# Altium footprint library reslib.PcbLib: 2 footprints
Each footprint in its own frame and in the unit in brackets; x right, y up, seen from the top. Pads: shape width x height; smd on the part's side, far side on the other; paste and mask are expansions set on the pad; w line width, h text height; cw(c..) or ccw(c..) is an arc to the next point about the centre after c.
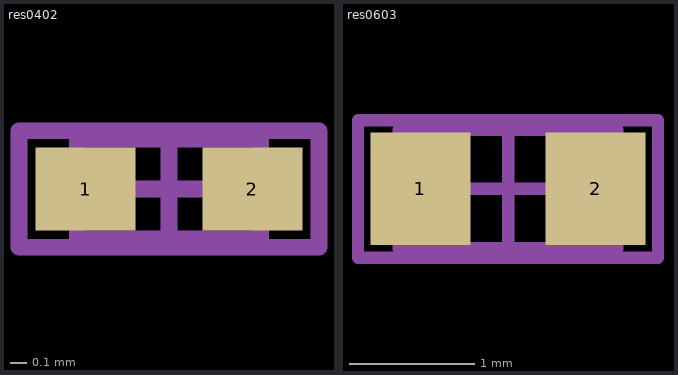
[diagram p0: the footprints below, top view; thin cyan lines are the x and y axes]

## res0402 [mm]
pads (2):
  rect 0.6x0.5 smd: 1(-1264.785,-1266.19) 2(-1263.785,-1266.19)
Mechanical 13:
  lines w0.1: -1264.835,-1266.49 -1263.735,-1266.49 -1263.735,-1265.89 -1264.835,-1265.89 -1264.835,-1266.49
Mechanical 15:
  lines w0.1: -1264.585,-1266.19 -1263.985,-1266.19 ; -1264.285,-1266.49 -1264.285,-1265.89 ; -1265.185,-1266.54 -1263.385,-1266.54 -1263.385,-1265.84 -1265.185,-1265.84 -1265.185,-1266.54
3D body: height 1.3, standoff 0, extent -1264.835,-1266.49 -1263.735,-1265.89

## res0603 [mm]
pads (2):
  rect 0.8x0.9 smd: 1(-1264.985,-1266.063) 2(-1263.585,-1266.063)
Mechanical 13:
  lines w0.1: -1265.16,-1266.538 -1265.16,-1265.588 -1263.41,-1265.588 -1263.41,-1266.538 -1265.16,-1266.538
Mechanical 15:
  lines w0.1: -1264.76,-1266.063 -1263.81,-1266.063 ; -1264.285,-1266.538 -1264.285,-1265.588 ; -1265.485,-1266.613 -1265.485,-1265.513 -1263.085,-1265.513 -1263.085,-1266.613 -1265.485,-1266.613
3D body: height 1.3, standoff 0, extent -1265.16,-1266.538 -1263.41,-1265.588